# EAGLE library part ISP (library RGB LED project)
In-system programming header
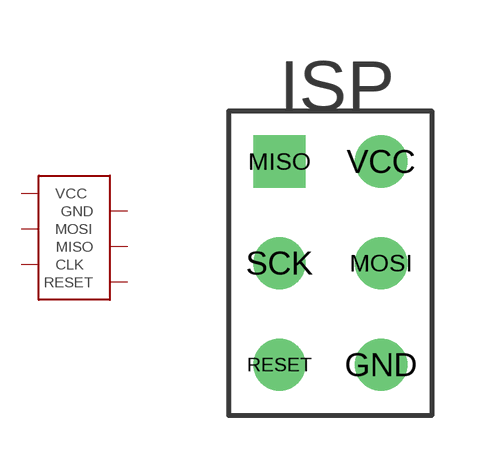
[diagram p3: symbol with the pads of ISP; footprint ISP]

Designator prefix ISP

## ISP  [ISP]
GND  GND
MISO  MISO
MOSI  MOSI
RESET  RESET
SCK  CLK
VCC  VCC

## Footprint ISP (pad centres in mm)
drill 0.8: GND 1.27,-2.54; MOSI 1.27,0; RESET -1.27,-2.54; SCK -1.27,0; VCC 1.27,2.54
drill 0.8 square: MISO -1.27,2.54